# EAGLE library part V__VFD_16-MT-30ZK (library ++Bedrahtet)
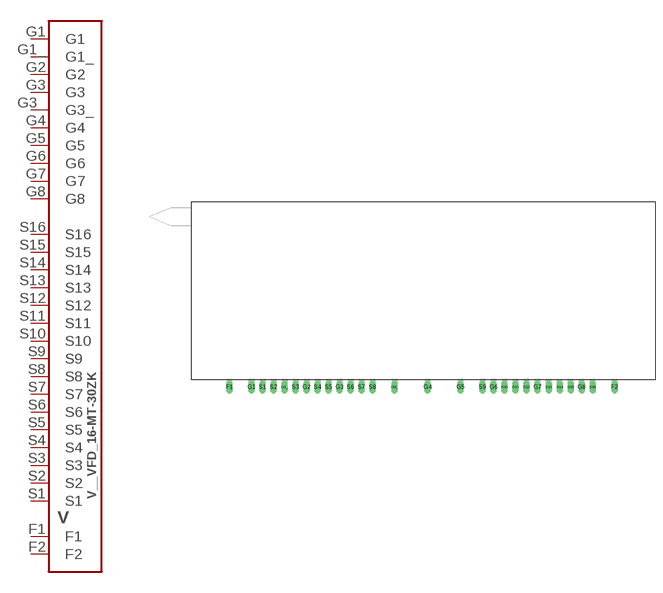
[diagram p41: symbol with the pads of VFD_16-MT-30ZK; footprint VFD_16-MT-30ZK]

Designator prefix V

## V__VFD_16-MT-30ZK  [VFD_16-MT-30ZK]
F1  F1
F2  F2
G1  G1
G1_  G1_
G2  G2
G3  G3
G3_  G3_
G4  G4
G5  G5
G6  G6
G7  G7
G8  G8
S1  S1
S2  S2
S3  S3
S4  S4
S5  S5
S6  S6
S7  S7
S8  S8
S9  S9
S10  S10
S11  S11
S12  S12
S13  S13
S14  S14
S15  S15
S16  S16

## Footprint VFD_16-MT-30ZK (pad centres in mm)
drill 1 long: F1 0,0; F2 88.9,0; G1 5.08,0; G1_ 12.7,0; G2 17.78,0; G3 25.4,0; G3_ 38.1,0; G4 45.72,0; G5 53.34,0; G6 60.96,0; G7 71.12,0; G8 81.28,0; S1 7.62,0; S2 10.16,0; S3 15.24,0; S4 20.32,0; S5 22.86,0; S6 27.94,0; S7 30.48,0; S8 33.02,0; S9 58.42,0; S10 63.5,0; S11 66.04,0; S12 68.58,0; S13 73.66,0; S14 76.2,0; S15 78.74,0; S16 83.82,0